# EAGLE library part SINGLE (library Op Amp)
Standard Dual Operational AmplifierCommon devices include the TL071 and the 741.
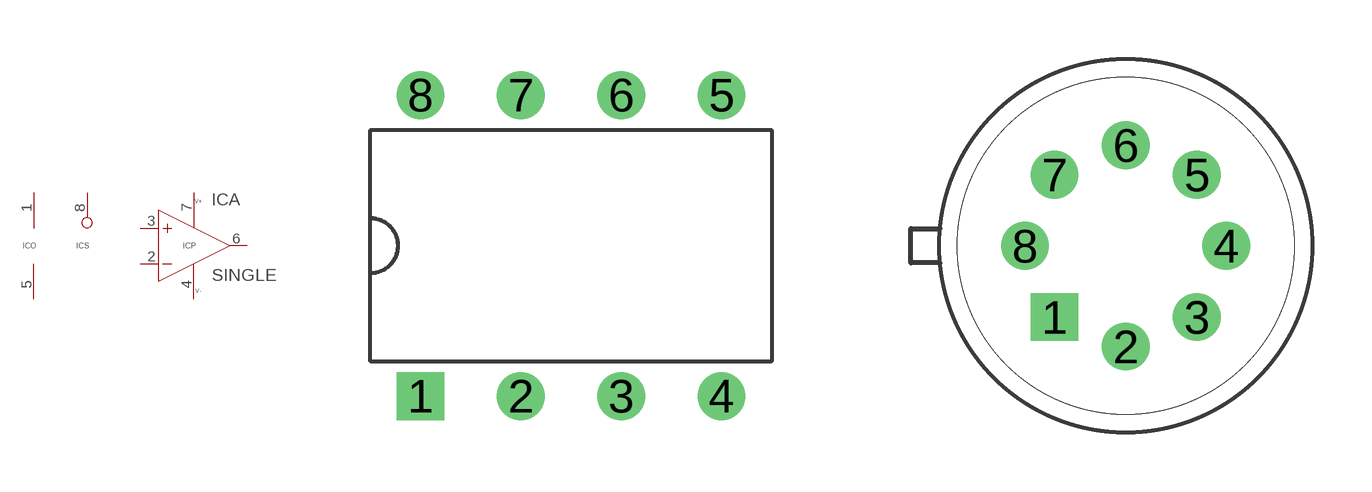
[diagram p0: symbol with the pads of DIL08; footprints DIL08, TO5-8]

Designator prefix IC; gates A=OP-AMP O=OFFSET S=BIAS P=POWER

## SINGLEDIL  [DIL08]
1  O:N1  pas
2  A:IN-  in
3  A:IN+  in
4  P:VCC-  pwr
5  O:N2  pas
6  A:OUT  out
7  P:VCC+  pwr
8  S:SELECT  pas

## SINGLETO5  [TO5-8]
1  O:N1  pas
2  A:IN+  in
3  A:OUT  out
4  O:N2  pas
5  P:VCC-  pwr
6  P:VCC+  pwr
7  A:IN-  in

## Footprint DIL08 (pad centres in mm)
Dual In Line 8pin Package
drill 0.7 square: 1 -3.81,-3.81
drill 0.7: 2 -1.27,-3.81; 3 1.27,-3.81; 4 3.81,-3.81; 5 3.81,3.81; 6 1.27,3.81; 7 -1.27,3.81; 8 -3.81,3.81

## Footprint TO5-8 (pad centres in mm)
Metal Can 8pin Package
drill 0.7 square: 1 -1.796,-1.796
drill 0.7: 2 0,-2.54; 3 1.796,-1.796; 4 2.54,0; 5 1.796,1.796; 6 0,2.54; 7 -1.796,1.796; 8 -2.54,0